# Altium footprint library WR-MM.PcbLib: 120 footprints (part 8 of 8)
Each footprint in its own frame and in the unit in brackets; x right, y up, seen from the top. Pads: shape width x height; smd on the part's side, far side on the other; paste and mask are expansions set on the pad; w line width, h text height; cw(c..) or ccw(c..) is an arc to the next point about the centre after c.
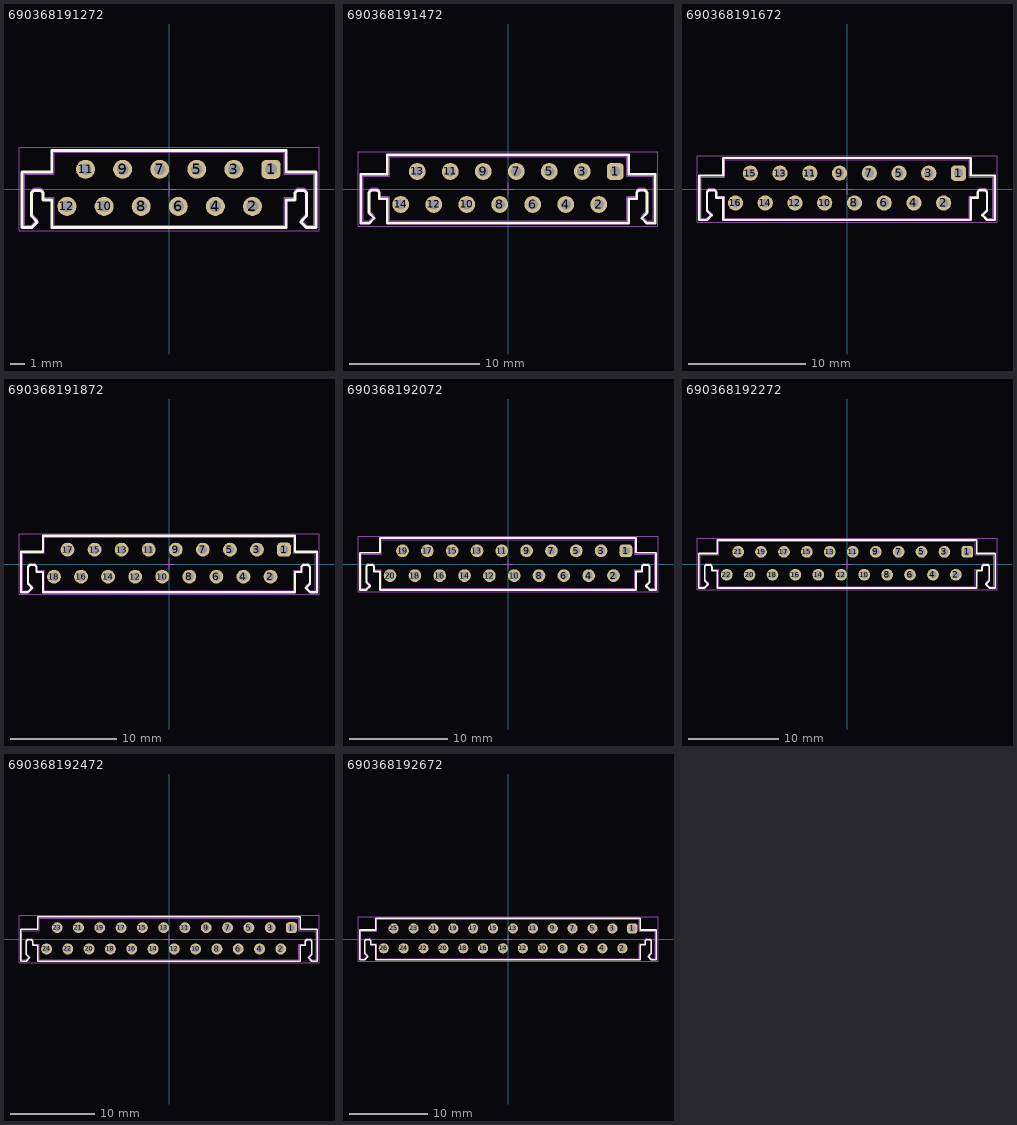
[diagram p7: the footprints below, top view; thin cyan lines are the x and y axes]

## 690368191272 [mm] "MiniModule Connectors, PCB Type, Female, THT, Angled, 12p"
height 6
pads (12):
  rrect50% 1.3x1.3 hole 0.8: 1(6.985,1.35)
  round 1.3 hole 0.8: 2(5.715,-1.19) 3(4.445,1.35) 4(3.175,-1.19) 5(1.905,1.35) 6(0.635,-1.19) 7(-0.635,1.35) 8(-1.905,-1.19) 9(-3.175,1.35) 10(-4.445,-1.19) 11(-5.715,1.35) 12(-6.985,-1.19)
Top Overlay:
  lines w0.2: -10.07,-2.65 -10.07,1.15 -8.03,1.15 -8.03,2.65 8.03,2.65 8.03,1.15 10.07,1.15 10.07,-2.65 9.42,-2.65 9.02,-2.25 9.42,-1.85 9.42,-0.3 ccw(c9.12,-0.4) 9.22,-0.1 8.82,-0.1 ccw(c8.92,-0.4) 8.62,-0.3 8.62,-0.75 8.03,-0.75 8.03,-2.65 -8.03,-2.65 -8.03,-0.75 -8.62,-0.75 -8.62,-0.3 ccw(c-8.92,-0.4) -8.82,-0.1 -9.22,-0.1 ccw(c-9.12,-0.4) -9.42,-0.3 -9.42,-1.85 -9.02,-2.25 -9.42,-2.65 -10.07,-2.65
Top Designator:
  text ".Designator" at -7.498,-0.5 h1.5
Top Component Outline:
  lines w0.1: -9.92,-2.5 -9.92,1 -7.88,1 -7.88,2.5 7.88,2.5 7.88,1 9.92,1 9.92,-2.5 9.42,-2.5 9.02,-2.1 9.42,-1.7 9.42,-0.15 ccw(c9.12,-0.25) 9.22,0.05 8.82,0.05 ccw(c8.92,-0.25) 8.62,-0.15 8.62,-0.6 7.88,-0.6 7.88,-2.5 -7.88,-2.5 -7.88,-0.6 -8.62,-0.6 -8.62,-0.15 ccw(c-8.92,-0.25) -8.82,0.05 -9.22,0.05 ccw(c-9.12,-0.25) -9.42,-0.15 -9.42,-1.7 -9.02,-2.1 -9.42,-2.5 -9.92,-2.5
Top 3D Body:
  lines w0.1: -9.92,-2.5 -9.42,-2.5 -9.02,-2.1 -9.42,-1.7 -9.42,-0.15 cw(c-9.12,-0.25) -9.22,0.05 -8.82,0.05 cw(c-8.92,-0.25) -8.62,-0.15 -8.62,-0.6 -7.88,-0.6 -7.88,-2.5 7.88,-2.5 7.88,-0.6 8.62,-0.6 8.62,-0.15 cw(c8.92,-0.25) 8.82,0.05 9.22,0.05 cw(c9.12,-0.25) 9.42,-0.15 9.42,-1.7 9.02,-2.1 9.42,-2.5 9.92,-2.5 9.92,1 7.88,1 7.88,2.5 -7.88,2.5 -7.88,1 -9.92,1 -9.92,-2.5
Top Courtyard:
  lines w0.05: -0.5,0 0.5,0 ; 0,-0.5 0,0.5 ; -10.27,-2.85 10.27,-2.85 10.27,2.85 -10.27,2.85 -10.27,-2.85
3D body "690368191272.stp": height 5.85, standoff -3.05, extent -9.92,-2.5 9.92,2.5

## 690368191472 [mm] "MiniModule Connectors, PCB Type, Female, THT, Angled, 14p"
height 6
pads (14):
  rrect50% 1.3x1.3 hole 0.8: 1(8.255,1.35)
  round 1.3 hole 0.8: 2(6.985,-1.19) 3(5.715,1.35) 4(4.445,-1.19) 5(3.175,1.35) 6(1.905,-1.19) 7(0.635,1.35) 8(-0.635,-1.19) 9(-1.905,1.35) 10(-3.175,-1.19) 11(-4.445,1.35) 12(-5.715,-1.19) 13(-6.985,1.35) 14(-8.255,-1.19)
Top Overlay:
  lines w0.2: -11.34,-2.65 -10.69,-2.65 -10.29,-2.25 -10.69,-1.85 -10.69,-0.3 cw(c-10.39,-0.4) -10.49,-0.1 -10.09,-0.1 cw(c-10.19,-0.4) -9.89,-0.3 -9.89,-0.75 -9.3,-0.75 -9.3,-2.65 9.3,-2.65 9.3,-0.75 9.89,-0.75 9.89,-0.3 cw(c10.19,-0.4) 10.09,-0.1 10.49,-0.1 cw(c10.39,-0.4) 10.69,-0.3 10.69,-1.85 10.29,-2.25 10.69,-2.65 11.34,-2.65 11.34,1.15 9.3,1.15 9.3,2.65 -9.3,2.65 -9.3,1.15 -11.34,1.15 -11.34,-2.65
Top Designator:
  text ".Designator" at -7.498,-0.5 h1.5
Top Component Outline:
  lines w0.1: -11.19,-2.5 -10.69,-2.5 -10.29,-2.1 -10.69,-1.7 -10.69,-0.15 cw(c-10.39,-0.25) -10.49,0.05 -10.09,0.05 cw(c-10.19,-0.25) -9.89,-0.15 -9.89,-0.6 -9.15,-0.6 -9.15,-2.5 9.15,-2.5 9.15,-0.6 9.89,-0.6 9.89,-0.15 cw(c10.19,-0.25) 10.09,0.05 10.49,0.05 cw(c10.39,-0.25) 10.69,-0.15 10.69,-1.7 10.29,-2.1 10.69,-2.5 11.19,-2.5 11.19,1 9.15,1 9.15,2.5 -9.15,2.5 -9.15,1 -11.19,1 -11.19,-2.5
Top 3D Body:
  lines w0.1: -11.19,-2.5 -11.19,1 -9.15,1 -9.15,2.5 9.15,2.5 9.15,1 11.19,1 11.19,-2.5 10.69,-2.5 10.29,-2.1 10.69,-1.7 10.69,-0.15 ccw(c10.39,-0.25) 10.49,0.05 10.09,0.05 ccw(c10.19,-0.25) 9.89,-0.15 9.89,-0.6 9.15,-0.6 9.15,-2.5 -9.15,-2.5 -9.15,-0.6 -9.89,-0.6 -9.89,-0.15 ccw(c-10.19,-0.25) -10.09,0.05 -10.49,0.05 ccw(c-10.39,-0.25) -10.69,-0.15 -10.69,-1.7 -10.29,-2.1 -10.69,-2.5 -11.19,-2.5
Top Courtyard:
  lines w0.05: -0.5,0 0.5,0 ; 0,-0.5 0,0.5 ; -11.54,-2.85 -11.54,2.85 11.54,2.85 11.54,-2.85 -11.54,-2.85
3D body "690368191472.stp": height 5.85, standoff -3.05, extent -11.19,-2.5 11.19,2.5

## 690368191672 [mm] "MiniModule Connectors, PCB Type, Female, THT, Angled, 16p"
height 6
pads (16):
  rrect50% 1.3x1.3 hole 0.8: 1(9.525,1.35)
  round 1.3 hole 0.8: 2(8.255,-1.19) 3(6.985,1.35) 4(5.715,-1.19) 5(4.445,1.35) 6(3.175,-1.19) 7(1.905,1.35) 8(0.635,-1.19) 9(-0.635,1.35) 10(-1.905,-1.19) 11(-3.175,1.35) 12(-4.445,-1.19) 13(-5.715,1.35) 14(-6.985,-1.19) 15(-8.255,1.35) 16(-9.525,-1.19)
Top Overlay:
  lines w0.2: -12.61,-2.65 -12.61,1.15 -10.57,1.15 -10.57,2.65 10.57,2.65 10.57,1.15 12.61,1.15 12.61,-2.65 11.96,-2.65 11.56,-2.25 11.96,-1.85 11.96,-0.3 ccw(c11.66,-0.4) 11.76,-0.1 11.36,-0.1 ccw(c11.46,-0.4) 11.16,-0.3 11.16,-0.75 10.57,-0.75 10.57,-2.65 -10.57,-2.65 -10.57,-0.75 -11.16,-0.75 -11.16,-0.3 ccw(c-11.46,-0.4) -11.36,-0.1 -11.76,-0.1 ccw(c-11.66,-0.4) -11.96,-0.3 -11.96,-1.85 -11.56,-2.25 -11.96,-2.65 -12.61,-2.65
Top Designator:
  text ".Designator" at -7.498,-0.5 h1.5
Top Component Outline:
  lines w0.1: -12.46,-2.5 -12.46,1 -10.42,1 -10.42,2.5 10.42,2.5 10.42,1 12.46,1 12.46,-2.5 11.96,-2.5 11.56,-2.1 11.96,-1.7 11.96,-0.15 ccw(c11.66,-0.25) 11.76,0.05 11.36,0.05 ccw(c11.46,-0.25) 11.16,-0.15 11.16,-0.6 10.42,-0.6 10.42,-2.5 -10.42,-2.5 -10.42,-0.6 -11.16,-0.6 -11.16,-0.15 ccw(c-11.46,-0.25) -11.36,0.05 -11.76,0.05 ccw(c-11.66,-0.25) -11.96,-0.15 -11.96,-1.7 -11.56,-2.1 -11.96,-2.5 -12.46,-2.5
Top 3D Body:
  lines w0.1: -12.46,-2.5 -11.96,-2.5 -11.56,-2.1 -11.96,-1.7 -11.96,-0.15 cw(c-11.66,-0.25) -11.76,0.05 -11.36,0.05 cw(c-11.46,-0.25) -11.16,-0.15 -11.16,-0.6 -10.42,-0.6 -10.42,-2.5 10.42,-2.5 10.42,-0.6 11.16,-0.6 11.16,-0.15 cw(c11.46,-0.25) 11.36,0.05 11.76,0.05 cw(c11.66,-0.25) 11.96,-0.15 11.96,-1.7 11.56,-2.1 11.96,-2.5 12.46,-2.5 12.46,1 10.42,1 10.42,2.5 -10.42,2.5 -10.42,1 -12.46,1 -12.46,-2.5
Top Courtyard:
  lines w0.05: -0.5,0 0.5,0 ; 0,-0.5 0,0.5 ; -12.81,-2.85 12.81,-2.85 12.81,2.85 -12.81,2.85 -12.81,-2.85
3D body "690368191672.stp": height 5.85, standoff -3.05, extent -12.46,-2.5 12.46,2.5

## 690368191872 [mm] "MiniModule Connectors, PCB Type, Female, THT, Angled, 18p"
height 6
pads (18):
  rrect50% 1.3x1.3 hole 0.8: 1(10.795,1.35)
  round 1.3 hole 0.8: 2(9.525,-1.19) 3(8.255,1.35) 4(6.985,-1.19) 5(5.715,1.35) 6(4.445,-1.19) 7(3.175,1.35) 8(1.905,-1.19) 9(0.635,1.35) 10(-0.635,-1.19) 11(-1.905,1.35) 12(-3.175,-1.19) 13(-4.445,1.35) 14(-5.715,-1.19) 15(-6.985,1.35) 16(-8.255,-1.19) 17(-9.525,1.35) 18(-10.795,-1.19)
Top Overlay:
  lines w0.2: -13.88,-2.65 -13.23,-2.65 -12.83,-2.25 -13.23,-1.85 -13.23,-0.3 cw(c-12.93,-0.4) -13.03,-0.1 -12.63,-0.1 cw(c-12.73,-0.4) -12.43,-0.3 -12.43,-0.75 -11.84,-0.75 -11.84,-2.65 11.84,-2.65 11.84,-0.75 12.43,-0.75 12.43,-0.3 cw(c12.73,-0.4) 12.63,-0.1 13.03,-0.1 cw(c12.93,-0.4) 13.23,-0.3 13.23,-1.85 12.83,-2.25 13.23,-2.65 13.88,-2.65 13.88,1.15 11.84,1.15 11.84,2.65 -11.84,2.65 -11.84,1.15 -13.88,1.15 -13.88,-2.65
Top Designator:
  text ".Designator" at -7.498,-0.5 h1.5
Top Component Outline:
  lines w0.1: -13.73,-2.5 -13.23,-2.5 -12.83,-2.1 -13.23,-1.7 -13.23,-0.15 cw(c-12.93,-0.25) -13.03,0.05 -12.63,0.05 cw(c-12.73,-0.25) -12.43,-0.15 -12.43,-0.6 -11.69,-0.6 -11.69,-2.5 11.69,-2.5 11.69,-0.6 12.43,-0.6 12.43,-0.15 cw(c12.73,-0.25) 12.63,0.05 13.03,0.05 cw(c12.93,-0.25) 13.23,-0.15 13.23,-1.7 12.83,-2.1 13.23,-2.5 13.73,-2.5 13.73,1 11.69,1 11.69,2.5 -11.69,2.5 -11.69,1 -13.73,1 -13.73,-2.5
Top 3D Body:
  lines w0.1: -13.73,-2.5 -13.73,1 -11.69,1 -11.69,2.5 11.69,2.5 11.69,1 13.73,1 13.73,-2.5 13.23,-2.5 12.83,-2.1 13.23,-1.7 13.23,-0.15 ccw(c12.93,-0.25) 13.03,0.05 12.63,0.05 ccw(c12.73,-0.25) 12.43,-0.15 12.43,-0.6 11.69,-0.6 11.69,-2.5 -11.69,-2.5 -11.69,-0.6 -12.43,-0.6 -12.43,-0.15 ccw(c-12.73,-0.25) -12.63,0.05 -13.03,0.05 ccw(c-12.93,-0.25) -13.23,-0.15 -13.23,-1.7 -12.83,-2.1 -13.23,-2.5 -13.73,-2.5
Top Courtyard:
  lines w0.05: -0.5,0 0.5,0 ; 0,-0.5 0,0.5 ; -14.08,-2.85 -14.08,2.85 14.08,2.85 14.08,-2.85 -14.08,-2.85
3D body "690368191872.stp": height 5.85, standoff -3.05, extent -13.73,-2.5 13.73,2.5

## 690368192072 [mm] "MiniModule Connectors, PCB Type, Female, THT, Angled, 20p"
height 6
pads (20):
  rrect50% 1.3x1.3 hole 0.8: 1(12.065,1.35)
  round 1.3 hole 0.8: 2(10.795,-1.19) 3(9.525,1.35) 4(8.255,-1.19) 5(6.985,1.35) 6(5.715,-1.19) 7(4.445,1.35) 8(3.175,-1.19) 9(1.905,1.35) 10(0.635,-1.19) 11(-0.635,1.35) 12(-1.905,-1.19) 13(-3.175,1.35) 14(-4.445,-1.19) 15(-5.715,1.35) 16(-6.985,-1.19) 17(-8.255,1.35) 18(-9.525,-1.19) 19(-10.795,1.35) 20(-12.065,-1.19)
Top Overlay:
  lines w0.2: -15.15,-2.65 -15.15,1.15 -13.11,1.15 -13.11,2.65 13.11,2.65 13.11,1.15 15.15,1.15 15.15,-2.65 14.5,-2.65 14.1,-2.25 14.5,-1.85 14.5,-0.3 ccw(c14.2,-0.4) 14.3,-0.1 13.9,-0.1 ccw(c14,-0.4) 13.7,-0.3 13.7,-0.75 13.11,-0.75 13.11,-2.65 -13.11,-2.65 -13.11,-0.75 -13.7,-0.75 -13.7,-0.3 ccw(c-14,-0.4) -13.9,-0.1 -14.3,-0.1 ccw(c-14.2,-0.4) -14.5,-0.3 -14.5,-1.85 -14.1,-2.25 -14.5,-2.65 -15.15,-2.65
Top Designator:
  text ".Designator" at -7.498,-0.5 h1.5
Top Component Outline:
  lines w0.1: -15,-2.5 -15,1 -12.96,1 -12.96,2.5 12.96,2.5 12.96,1 15,1 15,-2.5 14.5,-2.5 14.1,-2.1 14.5,-1.7 14.5,-0.15 ccw(c14.2,-0.25) 14.3,0.05 13.9,0.05 ccw(c14,-0.25) 13.7,-0.15 13.7,-0.6 12.96,-0.6 12.96,-2.5 -12.96,-2.5 -12.96,-0.6 -13.7,-0.6 -13.7,-0.15 ccw(c-14,-0.25) -13.9,0.05 -14.3,0.05 ccw(c-14.2,-0.25) -14.5,-0.15 -14.5,-1.7 -14.1,-2.1 -14.5,-2.5 -15,-2.5
Top 3D Body:
  lines w0.1: -15,-2.5 -14.5,-2.5 -14.1,-2.1 -14.5,-1.7 -14.5,-0.15 cw(c-14.2,-0.25) -14.3,0.05 -13.9,0.05 cw(c-14,-0.25) -13.7,-0.15 -13.7,-0.6 -12.96,-0.6 -12.96,-2.5 12.96,-2.5 12.96,-0.6 13.7,-0.6 13.7,-0.15 cw(c14,-0.25) 13.9,0.05 14.3,0.05 cw(c14.2,-0.25) 14.5,-0.15 14.5,-1.7 14.1,-2.1 14.5,-2.5 15,-2.5 15,1 12.96,1 12.96,2.5 -12.96,2.5 -12.96,1 -15,1 -15,-2.5
Top Courtyard:
  lines w0.05: -0.5,0 0.5,0 ; 0,-0.5 0,0.5 ; -15.35,-2.85 15.35,-2.85 15.35,2.85 -15.35,2.85 -15.35,-2.85
3D body "690368192072.stp": height 5.85, standoff -3.05, extent -15,-2.5 15,2.5

## 690368192272 [mm] "MiniModule Connectors, PCB Type, Female, THT, Angled, 22p"
height 6
pads (22):
  rrect50% 1.3x1.3 hole 0.8: 1(13.335,1.35)
  round 1.3 hole 0.8: 2(12.065,-1.19) 3(10.795,1.35) 4(9.525,-1.19) 5(8.255,1.35) 6(6.985,-1.19) 7(5.715,1.35) 8(4.445,-1.19) 9(3.175,1.35) 10(1.905,-1.19) 11(0.635,1.35) 12(-0.635,-1.19) 13(-1.905,1.35) 14(-3.175,-1.19) 15(-4.445,1.35) 16(-5.715,-1.19) 17(-6.985,1.35) 18(-8.255,-1.19) 19(-9.525,1.35) 20(-10.795,-1.19) 21(-12.065,1.35) 22(-13.335,-1.19)
Top Overlay:
  lines w0.2: -16.42,-2.65 -15.77,-2.65 -15.37,-2.25 -15.77,-1.85 -15.77,-0.3 cw(c-15.47,-0.4) -15.57,-0.1 -15.17,-0.1 cw(c-15.27,-0.4) -14.97,-0.3 -14.97,-0.75 -14.38,-0.75 -14.38,-2.65 14.38,-2.65 14.38,-0.75 14.97,-0.75 14.97,-0.3 cw(c15.27,-0.4) 15.17,-0.1 15.57,-0.1 cw(c15.47,-0.4) 15.77,-0.3 15.77,-1.85 15.37,-2.25 15.77,-2.65 16.42,-2.65 16.42,1.15 14.38,1.15 14.38,2.65 -14.38,2.65 -14.38,1.15 -16.42,1.15 -16.42,-2.65
Top Designator:
  text ".Designator" at -7.498,-0.5 h1.5
Top Component Outline:
  lines w0.1: -16.27,-2.5 -15.77,-2.5 -15.37,-2.1 -15.77,-1.7 -15.77,-0.15 cw(c-15.47,-0.25) -15.57,0.05 -15.17,0.05 cw(c-15.27,-0.25) -14.97,-0.15 -14.97,-0.6 -14.23,-0.6 -14.23,-2.5 14.23,-2.5 14.23,-0.6 14.97,-0.6 14.97,-0.15 cw(c15.27,-0.25) 15.17,0.05 15.57,0.05 cw(c15.47,-0.25) 15.77,-0.15 15.77,-1.7 15.37,-2.1 15.77,-2.5 16.27,-2.5 16.27,1 14.23,1 14.23,2.5 -14.23,2.5 -14.23,1 -16.27,1 -16.27,-2.5
Top 3D Body:
  lines w0.1: -16.27,-2.5 -16.27,1 -14.23,1 -14.23,2.5 14.23,2.5 14.23,1 16.27,1 16.27,-2.5 15.77,-2.5 15.37,-2.1 15.77,-1.7 15.77,-0.15 ccw(c15.47,-0.25) 15.57,0.05 15.17,0.05 ccw(c15.27,-0.25) 14.97,-0.15 14.97,-0.6 14.23,-0.6 14.23,-2.5 -14.23,-2.5 -14.23,-0.6 -14.97,-0.6 -14.97,-0.15 ccw(c-15.27,-0.25) -15.17,0.05 -15.57,0.05 ccw(c-15.47,-0.25) -15.77,-0.15 -15.77,-1.7 -15.37,-2.1 -15.77,-2.5 -16.27,-2.5
Top Courtyard:
  lines w0.05: -0.5,0 0.5,0 ; 0,-0.5 0,0.5 ; -16.62,-2.85 -16.62,2.85 16.62,2.85 16.62,-2.85 -16.62,-2.85
3D body "690368192272.stp": height 5.85, standoff -3.05, extent -16.27,-2.5 16.27,2.5

## 690368192472 [mm] "MiniModule Connectors, PCB Type, Female, THT, Angled, 24p"
height 6
pads (24):
  rrect50% 1.3x1.3 hole 0.8: 1(14.605,1.35)
  round 1.3 hole 0.8: 2(13.335,-1.19) 3(12.065,1.35) 4(10.795,-1.19) 5(9.525,1.35) 6(8.255,-1.19) 7(6.985,1.35) 8(5.715,-1.19) 9(4.445,1.35) 10(3.175,-1.19) 11(1.905,1.35) 12(0.635,-1.19) 13(-0.635,1.35) 14(-1.905,-1.19) 15(-3.175,1.35) 16(-4.445,-1.19) 17(-5.715,1.35) 18(-6.985,-1.19) 19(-8.255,1.35) 20(-9.525,-1.19) 21(-10.795,1.35) 22(-12.065,-1.19) 23(-13.335,1.35) 24(-14.605,-1.19)
Top Overlay:
  lines w0.2: -17.69,-2.65 -17.69,1.15 -15.65,1.15 -15.65,2.65 15.65,2.65 15.65,1.15 17.69,1.15 17.69,-2.65 17.04,-2.65 16.64,-2.25 17.04,-1.85 17.04,-0.3 ccw(c16.74,-0.4) 16.84,-0.1 16.44,-0.1 ccw(c16.54,-0.4) 16.24,-0.3 16.24,-0.75 15.65,-0.75 15.65,-2.65 -15.65,-2.65 -15.65,-0.75 -16.24,-0.75 -16.24,-0.3 ccw(c-16.54,-0.4) -16.44,-0.1 -16.84,-0.1 ccw(c-16.74,-0.4) -17.04,-0.3 -17.04,-1.85 -16.64,-2.25 -17.04,-2.65 -17.69,-2.65
Top Designator:
  text ".Designator" at -7.498,-0.5 h1.5
Top Component Outline:
  lines w0.1: -17.54,-2.5 -17.54,1 -15.5,1 -15.5,2.5 15.5,2.5 15.5,1 17.54,1 17.54,-2.5 17.04,-2.5 16.64,-2.1 17.04,-1.7 17.04,-0.15 ccw(c16.74,-0.25) 16.84,0.05 16.44,0.05 ccw(c16.54,-0.25) 16.24,-0.15 16.24,-0.6 15.5,-0.6 15.5,-2.5 -15.5,-2.5 -15.5,-0.6 -16.24,-0.6 -16.24,-0.15 ccw(c-16.54,-0.25) -16.44,0.05 -16.84,0.05 ccw(c-16.74,-0.25) -17.04,-0.15 -17.04,-1.7 -16.64,-2.1 -17.04,-2.5 -17.54,-2.5
Top 3D Body:
  lines w0.1: -17.54,-2.5 -17.04,-2.5 -16.64,-2.1 -17.04,-1.7 -17.04,-0.15 cw(c-16.74,-0.25) -16.84,0.05 -16.44,0.05 cw(c-16.54,-0.25) -16.24,-0.15 -16.24,-0.6 -15.5,-0.6 -15.5,-2.5 15.5,-2.5 15.5,-0.6 16.24,-0.6 16.24,-0.15 cw(c16.54,-0.25) 16.44,0.05 16.84,0.05 cw(c16.74,-0.25) 17.04,-0.15 17.04,-1.7 16.64,-2.1 17.04,-2.5 17.54,-2.5 17.54,1 15.5,1 15.5,2.5 -15.5,2.5 -15.5,1 -17.54,1 -17.54,-2.5
Top Courtyard:
  lines w0.05: -0.5,0 0.5,0 ; 0,-0.5 0,0.5 ; -17.89,-2.85 17.89,-2.85 17.89,2.85 -17.89,2.85 -17.89,-2.85
3D body "690368192472.stp": height 5.85, standoff -3.05, extent -17.54,-2.5 17.54,2.5

## 690368192672 [mm] "MiniModule Connectors, PCB Type, Female, THT, Angled, 26p"
height 6
pads (26):
  rrect50% 1.3x1.3 hole 0.8: 1(15.875,1.35)
  round 1.3 hole 0.8: 2(14.605,-1.19) 3(13.335,1.35) 4(12.065,-1.19) 5(10.795,1.35) 6(9.525,-1.19) 7(8.255,1.35) 8(6.985,-1.19) 9(5.715,1.35) 10(4.445,-1.19) 11(3.175,1.35) 12(1.905,-1.19) 13(0.635,1.35) 14(-0.635,-1.19) 15(-1.905,1.35) 16(-3.175,-1.19) 17(-4.445,1.35) 18(-5.715,-1.19) 19(-6.985,1.35) 20(-8.255,-1.19) 21(-9.525,1.35) 22(-10.795,-1.19) 23(-12.065,1.35) 24(-13.335,-1.19) 25(-14.605,1.35) 26(-15.875,-1.19)
Top Overlay:
  lines w0.2: -18.96,-2.65 -18.96,1.15 -16.92,1.15 -16.92,2.65 16.92,2.65 16.92,1.15 18.96,1.15 18.96,-2.65 18.31,-2.65 17.91,-2.25 18.31,-1.85 18.31,-0.3 ccw(c18.01,-0.4) 18.11,-0.1 17.71,-0.1 ccw(c17.81,-0.4) 17.51,-0.3 17.51,-0.75 16.92,-0.75 16.92,-2.65 -16.92,-2.65 -16.92,-0.75 -17.51,-0.75 -17.51,-0.3 ccw(c-17.81,-0.4) -17.71,-0.1 -18.11,-0.1 ccw(c-18.01,-0.4) -18.31,-0.3 -18.31,-1.85 -17.91,-2.25 -18.31,-2.65 -18.96,-2.65
Top Designator:
  text ".Designator" at -7.498,-0.5 h1.5
Top Component Outline:
  lines w0.1: -18.81,-2.5 -18.81,1 -16.77,1 -16.77,2.5 16.77,2.5 16.77,1 18.81,1 18.81,-2.5 18.31,-2.5 17.91,-2.1 18.31,-1.7 18.31,-0.15 ccw(c18.01,-0.25) 18.11,0.05 17.71,0.05 ccw(c17.81,-0.25) 17.51,-0.15 17.51,-0.6 16.77,-0.6 16.77,-2.5 -16.77,-2.5 -16.77,-0.6 -17.51,-0.6 -17.51,-0.15 ccw(c-17.81,-0.25) -17.71,0.05 -18.11,0.05 ccw(c-18.01,-0.25) -18.31,-0.15 -18.31,-1.7 -17.91,-2.1 -18.31,-2.5 -18.81,-2.5
Top 3D Body:
  lines w0.1: -18.81,-2.5 -18.31,-2.5 -17.91,-2.1 -18.31,-1.7 -18.31,-0.15 cw(c-18.01,-0.25) -18.11,0.05 -17.71,0.05 cw(c-17.81,-0.25) -17.51,-0.15 -17.51,-0.6 -16.77,-0.6 -16.77,-2.5 16.77,-2.5 16.77,-0.6 17.51,-0.6 17.51,-0.15 cw(c17.81,-0.25) 17.71,0.05 18.11,0.05 cw(c18.01,-0.25) 18.31,-0.15 18.31,-1.7 17.91,-2.1 18.31,-2.5 18.81,-2.5 18.81,1 16.77,1 16.77,2.5 -16.77,2.5 -16.77,1 -18.81,1 -18.81,-2.5
Top Courtyard:
  lines w0.05: -0.5,0 0.5,0 ; 0,-0.5 0,0.5 ; -19.16,-2.85 19.16,-2.85 19.16,2.85 -19.16,2.85 -19.16,-2.85
3D body "690368192672.stp": height 5.85, standoff -3.05, extent -18.81,-2.5 18.81,2.5